# Altium schematic symbol library Logo.SchLib: 1 symbol
Pins are listed as number, name and electrical type; pins without a type are passive.

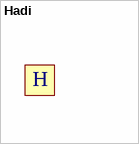
[diagram p0: symbol Hadi]

## Hadi
designator G?, comment Hadi Graphical Logo  (value not drawn)
footprint Hadi (My Personal Logo)
footprint Hadi - Silkscreen (My Personal Logo)
text: H